# Altium schematic symbol library thesis_schem_lib.SchLib: 52 symbols
Pins are listed as number, name and electrical type; pins without a type are passive.

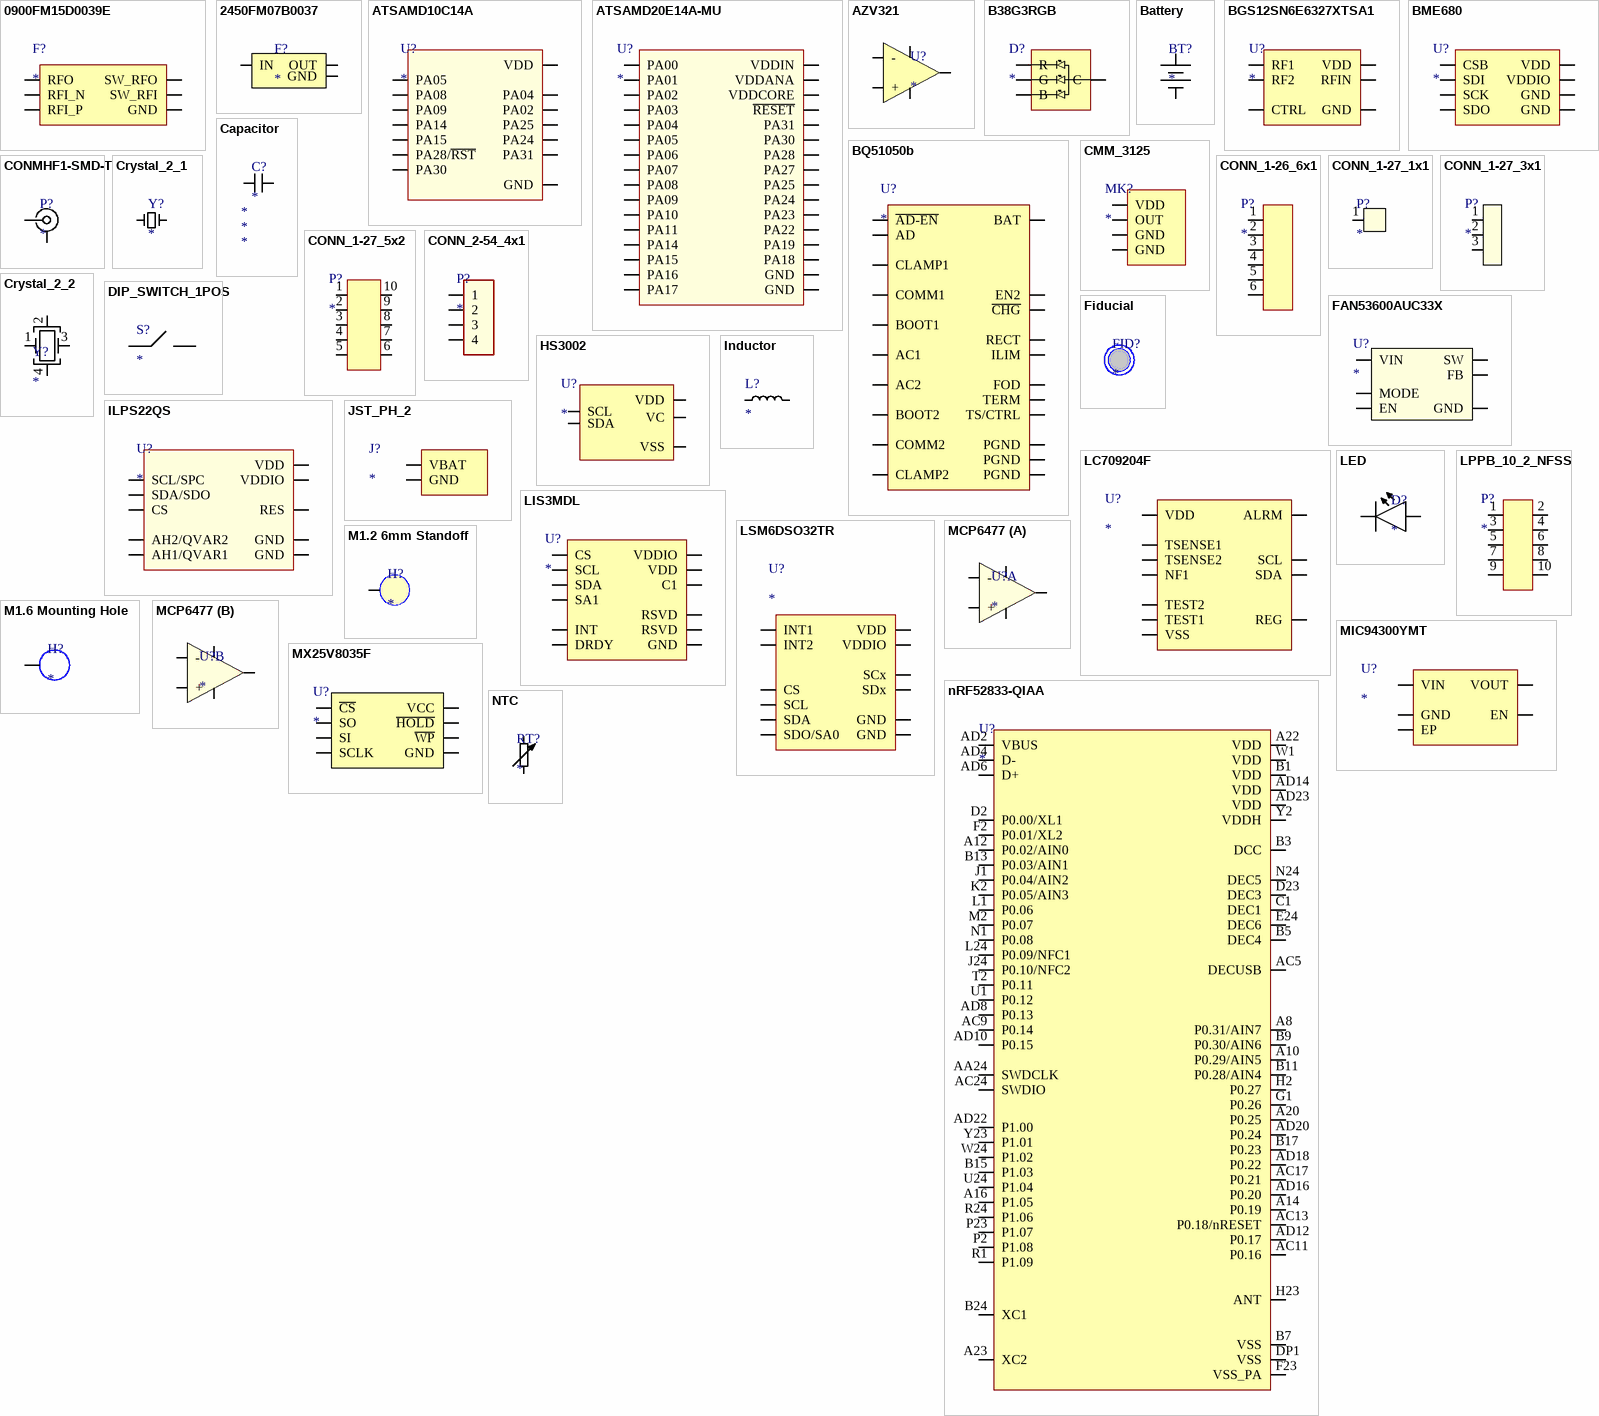
[diagram p0: symbols 0900FM15D0039E to NTC]

## 0900FM15D0039E
designator F?
Miniature impedance-matched filter for Semtech SX1261/SX1262 for 915MHz operation
footprint 0900FM15D0039E (Miniature impedance-matched filter for Semtech SX1261/SX1262)
pins: 1 RFO, 2 GND, 3 RFI_N, 4 RFI_P, 5 GND, 6 SW_RFI, 7 GND, 8 SW_RFO, 9 GND, 10 GND

## 2450FM07B0037
designator F?
Miniature 2.4GHz impedance matched low pass filter optimized for nRF52xxx
footprint 2450FM07B0037 (nRF52 Bluetooth matching filter)
pins: 1 IN "RX", 2 GND "RX", 3 OUT "RX"

## ATSAMD10C14A
designator U?
Atmel 32b MCU, SAMD10C family
footprint SOIC127P600X175-14N (SOIC, 14-Leads, Body 8.65x3.90mm, Pitch 1.27mm, IPC Medium Density)
pins: 1 PA05 "RX", 2 PA08, 3 PA09, 4 PA14, 5 PA15, 6 PA28/~{RST}, 7 PA30, 8 PA31, 9 PA24, 10 PA25, 11 GND, 12 VDD, 13 PA02, 14 PA04

## ATSAMD20E14A­MU
designator U?
footprint QFN50P500X500X100_HS-33N (QFN, 32-Leads, Body 5.00x5.00mm, Pitch 0.50mm, Thermal Pad 3.60x3.60mm, IPC Medium Density)
pins: 1 PA00, 2 PA01, 3 PA02, 4 PA03, 5 PA04, 6 PA05, 7 PA06, 8 PA07, 9 VDDANA, 10 GND, 11 PA08, 12 PA09, 13 PA10, 14 PA11, 15 PA14, 16 PA15, 17 PA16, 18 PA17, 19 PA18, 20 PA19, 21 PA22, 22 PA23, 23 PA24, 24 PA25, 25 PA27, 26 ~{RESET}, 27 PA28, 28 GND, 29 VDDCORE, 30 VDDIN, 31 PA30, 32 PA31

## AZV321
designator U?
footprint SC-70-5
pins: 1 + "RX", 2 "RX", 3 - "RX", 4 "RX", 5 "RX"

## B38G3RGB
designator D?
RGB LED
footprint B38G3RGB (RGB LED)
pins: 1 G, 2 B, 3 C, 4 R

## Battery
designator BT?
footprint LiPoly (SMD LiPoly)
footprint 1_27-3-male-header (1.27mm 3 pin male header)
pins: 1 VCC "RX", 2 VCC "RX"

## BGS12SN6E6327XTSA1
designator U?
RF Switch
footprint BGS12SN6E6327XTSA1 (SPDT RF switch)
pins: 1 RF2, 2 GND, 3 RF1, 4 VDD, 5 RFIN, 6 CTRL

## BME680
designator U?
Bosch gas, pressure and humidity sensor
footprint BME680
pins: 1 GND, 2 CSB, 3 SDI, 4 SCK, 5 SDO, 6 VDDIO, 7 GND, 8 VDD

## BQ51050b
designator U?
Single stage wireless power receiver and Li-Ion/Li-Pol battery charger. Qi compatible
footprint BQ51050b-VQFN (Wireless charging receiver and Li-Ion/Li-Poly battery charger)
pins: 0 PGND, 1 PGND, 2 AC1, 3 BOOT1, 4 BAT, 5 CLAMP1, 6 COMM1, 7 ~{CHG}, 8 ~{AD-EN}, 9 AD, 10 TERM, 11 EN2, 12 ILIM, 13 TS/CTRL, 14 FOD, 15 COMM2, 16 CLAMP2, 17 BOOT2, 18 RECT, 19 AC2, 20 PGND

## Capacitor
designator C?
Dielectric: *; Voltage: *; Tolerance: *
footprint CAP_0402
footprint CAP_0603
pins: 1 J12, 2 J11

## CMM_3125
designator MK?
footprint CMM_3125 (MEMS Microphone)
pins: 1 VDD, 2 GND, 3 GND, 4 OUT

## CONMHF1-SMD-T
designator P?
footprint CONMHF1-SMD-T
pins: 1 VCC "RX", 2 VCC "RX", 3 VCC "RX", 4 VCC "RX"

## CONN_1-26_6x1
designator P?
footprint 851-PP-NNN-40-001101
footprint 1_27-6x1-MALE_HEADER_RIGHT_THT
pins: 1, 2, 3, 4, 5, 6

## CONN_1-27_1x1
designator P?
1.27 pitch 1 pin male connector
footprint 1_27-1-MALE-HEADER (1.27mm pitch 1pin male header)
pins: 1 VCC "RX"

## CONN_1-27_3x1
designator P?
1.27mm pitch 3 pin male connector
footprint 1_27-3-male-header (1.27mm 3 pin male header)
pins: 1, 2, 3

## CONN_1-27_5x2
designator P?
1.27mm pitch 5x2 pin male connector
footprint 1_27-5x2-MALE-HEADER (1.27mm pitch 5x2 row SMD male header)
footprint 1_27-5x2 Female Right Angle
pins: 1, 2, 3, 4, 5, 6, 7, 8, 9, 10

## CONN_2-54_4x1
designator P?
footprint 2_54-4x1_FEMALE_HEADER_THT
pins: 1, 2, 3, 4

## Crystal_2_1
designator Y?
footprint 2-SMD
pins: 1, 2

## Crystal_2_2
designator Y?
footprint 4-SMD
pins: 1, 2, 3, 4

## DIP_SWITCH_1POS
designator S?
footprint DS04-254-2-01BK-SMT (1 position 2.5mm pitch SMT DIP switch)
pins: 1, 2

## FAN53600AUC33X
designator U?
600mA 3V3 DC-DC Buck Converter in 6-UBGA
footprint FAN53600 (6-UBGA DC-DC voltage regulator)
pins: A1 MODE, A2 VIN, B1 SW, B2 EN, C1 FB, C2 GND

## Fiducial
designator FID?
footprint FIDUCIAL_0.5MM_SOLDER_1MM_MASK
footprint FIDUCIAL_1MM_SOLDER_2MM_MASK

## HS3002
designator U?
Humidity sensor, 0%-100% RH \pm 1.5%RH
footprint HS3002 (Humidity sensor)
pins: 1 SCL, 2 SDA, 3 VC (power), 4 VDD (power), 6 VSS (power)

## ILPS22QS
designator U?
STM Barometer
footprint ILPS22QSTR
pins: 1 VDDIO, 2 SCL/SPC, 3 RES, 4 SDA/SDO, 5 AH2/QVAR2, 6 CS, 7 AH1/QVAR1, 8 GND, 9 GND, 10 VDD

## Inductor
designator L?
footprint LQM2MPNxxxx (Inductor in 0805)
footprint VLS2010ET-150M (Inductor)
footprint BWCS001207074N7H00 (Inductor 0402)
footprint RES_0402
footprint LQM21P
footprint LQW15AN
footprint WR202010
pins: 1, 2

## JST_PH_2
designator J?
JST PH series connector with 2 pins 1 row
footprint JST PH2 SMT (JST PH 2pin connector SMT)
pins: 1 VBAT, 2 GND

## LC709204F
designator U?
onsemi I2C Li-Ion/Li-Poly Fuel Gauge
footprint LC709204F (on-semi I2C Li-Ion/Li-Pol fuel gauge IC)
pins: A1 SCL, A2 VSS, A3 REG, A4 VDD, B1 SDA, B2 TEST2, B3 TSENSE2, B4 TSENSE1, C1 ALRM, C2 TEST1, C3 NF1 "No function, leave OPEN. Can be connected to TSENSE2 if required"

## LED
designator D?
footprint LED_0603
pins: 1, 2

## LIS3MDL
designator U?
ST magnetometer
footprint LIS3MDL (ST LGA-12 2x2 Magnetometer)
pins: 1 SCL, 2 RSVD, 3 GND, 4 C1, 5 VDD, 6 VDDIO, 7 INT, 8 DRDY, 9 SA1, 10 CS, 11 SDA, 12 RSVD

## LPPB_10_2_NFSS
designator P?
footprint LPPB_10_2_NFSS
pins: 1, 2, 3, 4, 5, 6, 7, 8, 9, 10

## LSM6DSO32TR
designator U?
STM IMU
footprint LSM6DSO
pins: 1 SDO/SA0 "RX", 2 SDx "RX", 3 SCx "RX", 4 INT1 "RX", 5 VDDIO "RX", 6 GND "RX", 7 GND "RX", 8 VDD "RX", 9 INT2 "RX", 12 CS "RX", 13 SCL "RX", 14 SDA "RX"

## M1.2 6mm Standoff
designator H?
footprint M1.2_6mm_STANDOFF
pins: 1 VCC "RX"

## M1.6 Mounting Hole
designator H?
footprint M1.6
pins: 1

## MCP6477
designator U?
footprint SOIC127P600X175-8N (SOIC, 8-Leads, Body 4.90x3.90mm, Pitch 1.27mm, IPC Medium Density)
part A pins: 1 "RX", 2 - "RX", 3 + "RX", 4 "RX", 8 "RX"
part B pins: 4 "RX", 5 + "RX", 6 - "RX", 7 "RX", 8 "RX"

## MIC94300YMT
designator U?
200mA load switch
footprint MIC94300YMT (200mA load switch)
pins: 1 EN, 2 GND, 3 VOUT, 4 VIN, EP1 EP

## MX25V8035F
designator U?
JEDEC compatible NOR flash
footprint MX25V8035F
pins: 1 ~{CS}, 2 SO, 3 ~{WP}, 4 GND, 5 SI, 6 SCLK, 7 ~{HOLD}, 8 VCC

## nRF52833-QIAA
designator U?
BLE 5.1, Cortex M-4 SoC
footprint nRF52833-QIAA (aQFN-73 Footprint for nRF52833)
pins: A8 P0.31/AIN7 "AIN7", A10 P0.29/AIN5 "AIN5", A12 P0.02/AIN0 "AIN0", A14 P0.19, A16 P1.05, A20 P0.25, A22 VDD, A23 XC2 "Connection for 32MHz crystal", AA24 SWDCLK "Serial wire debug clock input for debug and programming", AC5 DECUSB "USB 3.3V regulator supply decoupling", AC9 P0.14, AC11 P0.16, AC13 P0.18/nRESET "nRESET - Configurable as pin RESET", AC17 P0.21, AC24 SWDIO "Serial wire debug I/O for debug and programming", AD2 VBUS "5V input for USB 3.3V regulator", AD4 D- "USB D-", AD6 D+ "USB D+", AD8 P0.13, AD10 P0.15, AD12 P0.17, AD14 VDD, AD16 P0.20, AD18 P0.22, AD20 P0.24, AD22 P1.00 "TRACEDATA0 - Trace buffer TRACEDATA[0]. Serial wire output (SWO)", AD23 VDD, B1 VDD, B3 DCC "DC/DC Converter output", B5 DEC4 "1.3V regulator supply decoupling", B7 VSS, B9 P0.30/AIN6 "AIN6", B11 P0.28/AIN4 "AIN4", B13 P0.03/AIN1 "AIN1", B15 P1.03, B17 P0.23, B24 XC1 "Connection for 32MHz crystal", C1 DEC1 "1.1V regulator supply decoupling", D2 P0.00/XL1 "XL1 - Connection for 32.768kHz crystal", D23 DEC3 "Power supply, decoupling", DP1 VSS "Die pad (GND)", E24 DEC6 "1.3V regulator supply decoupling", F2 P0.01/XL2 "XL2 - Connection for 32.768kHz crystal", F23 VSS_PA "Ground (radio supply)", G1 P0.26, H2 P0.27, H23 ANT "Single-ended radio antenna connection", J1 P0.04/AIN2 "AIN2", J24 P0.10/NFC2 "NFC2 - NFC antenna connection", K2 P0.05/AIN3 "AIN3", L1 P0.06, L24 P0.09/NFC1 "NFC1 - NFC antenna connection", M2 P0.07 "TRACECLK - Trace buffer clock", N1 P0.08, N24 DEC5 "1.3V regulator supply decoupling", P2 P1.08, P23 P1.07, R1 P1.09 "TRACEDATA3 - Trace buffer TRACEDATA[3]", R24 P1.06, T2 P0.11 "TRACEDATA2 - Trace buffer TRACEDATA[2]", U1 P0.12 "TRACEDATA1 - Trace buffer TRACEDATA[1]", U24 P1.04, W1 VDD, W24 P1.02, Y2 VDDH "High voltage power supply", Y23 P1.01

## NTC
designator RT?
pins: 1 1  "RX", 2 "RX"

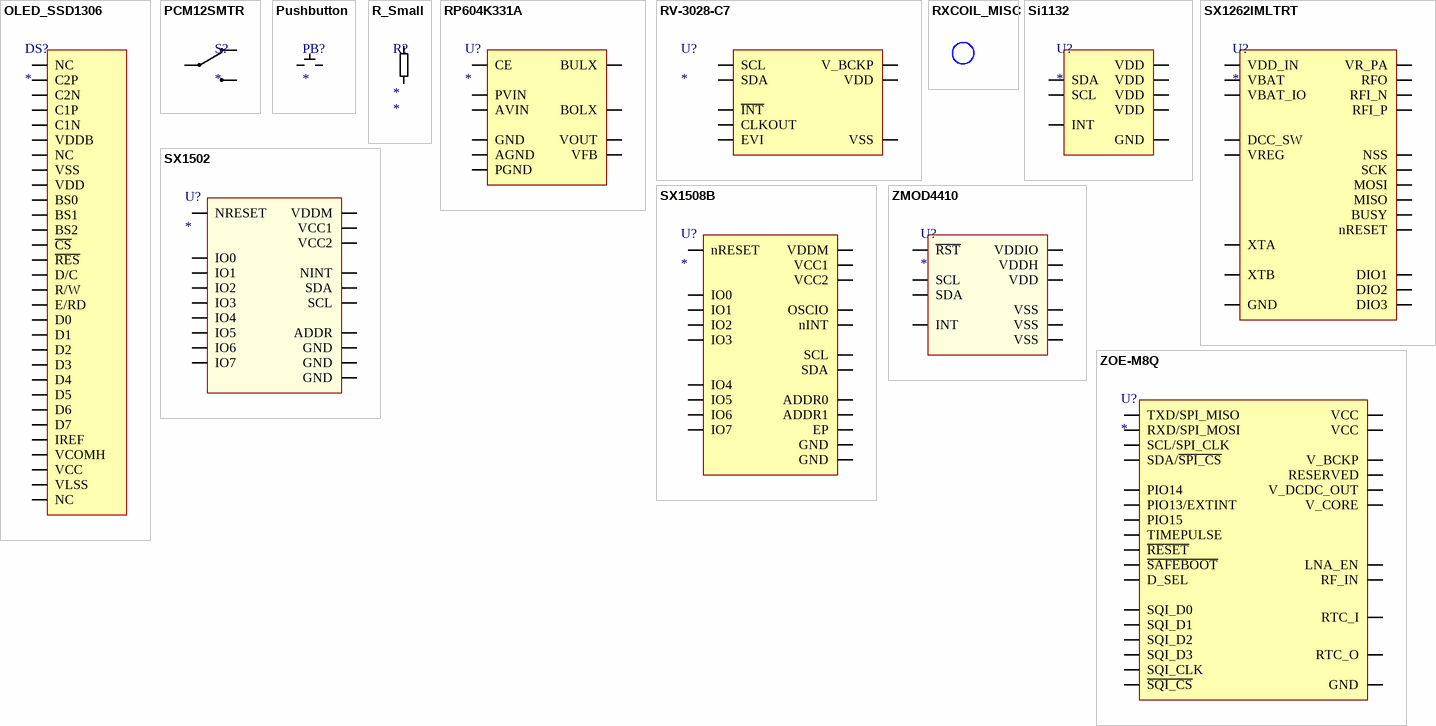
[diagram p1: symbols OLED_SSD1306 to ZOE-M8Q]

## OLED_SSD1306
designator DS?
SSD1306 based OLED display
footprint OLED_0.96Inch_SSD1306
pins: 1 NC, 2 C2P, 3 C2N, 4 C1P, 5 C1N, 6 VDDB, 7 NC, 8 VSS, 9 VDD, 10 BS0, 11 BS1, 12 BS2, 13 ~{CS}, 14 ~{RES}, 15 D/C, 16 R/W, 17 E/RD, 18 D0, 19 D1, 20 D2, 21 D3, 22 D4, 23 D5, 24 D6, 25 D7, 26 IREF, 27 VCOMH, 28 VCC, 29 VLSS, 30 NC

## PCM12SMTR
designator S?
CK Switches 300mA 6VDC SMT right-angle slide switch
footprint PCM12SMTR (CK switches PCM series SMT switch)
pins: 1, 2, 3

## Pushbutton
designator PB?
footprint EVQP7A (Right angle tactile switch)
pins: 1, 2

## R_Small
designator R?
Wattage: *; Tolerance: *
footprint RES_0402
footprint RES_0603
pins: 1 1  "RX", 2 "RX"

## RP604K331A
designator U?
Nisshinbo Ultra-low quiescent current, 300mA, Buck-Boost DC/DC converter
footprint UDFN-12 (UDFN-12 package for RP604x)
pins: 1 AVIN, 2 CE, 3 PGND, 4 PGND, 5 AGND, 6 VFB, 7 VOUT, 8 BOLX, 9 PGND, 10 PGND, 11 BULX, 12 PVIN, 13 GND

## RV-3028-C7
designator U?
Extreme Low Power RTC Module
footprint RV-3028-C7 (Extreme Low Power RTC module)
pins: 1 CLKOUT, 2 ~{INT}, 3 SCL, 4 SDA, 5 VSS, 6 V_BCKP, 7 VDD, 8 EVI

## RXCOIL_MISC
designator *  (value not drawn)
footprint RX_COIL_MISC

## Si1132
designator U?
UV index and ambient light sensor
footprint Si1132
pins: 1 SDA "RX", 2 SCL "RX", 3 VDD "RX", 4 INT "RX", 6 VDD "RX", 7 VDD "RX", 8 GND "RX", 9 VDD "RX"

## SX1262IMLTRT
designator U?
Semtech LoRa radio transceivers
footprint SX1262IMLTRT (Semtech LoRa Transceiver)
pins: 0 GND, 1 VDD_IN, 2 GND, 3 XTA, 4 XTB, 5 GND, 6 DIO3, 7 VREG, 8 GND, 9 DCC_SW, 10 VBAT, 11 VBAT_IO, 12 DIO2, 13 DIO1, 14 BUSY, 15 nRESET, 16 MISO, 17 MOSI, 18 SCK, 19 NSS, 20 GND, 21 RFI_P, 22 RFI_N, 23 RFO, 24 VR_PA

## SX1502
designator U?
8 GPIO extender with I2C interface
footprint QFN40P300X300X60_HS-21N (QFN, 20-Leads, Body 3.00x3.00mm, Pitch 0.40mm, Thermal Pad 1.68x1.68mm, IPC Medium Density)
pins: 1 NRESET, 2 SDA, 4 SCL, 5 IO0, 6 IO1, 7 VCC1, 8 GND, 9 IO2, 10 IO3, 11 NINT, 12 ADDR, 14 VDDM, 15 IO4, 16 IO5, 17 VCC2, 18 GND, 19 IO6, 20 IO7, 21 GND

## SX1508B
designator U?
8 channel GPIO expander with level shifting, LED driver and keypad engine
footprint QFN40P300X300X60_HS-21N (QFN, 20-Leads, Body 3.00x3.00mm, Pitch 0.40mm, Thermal Pad 1.68x1.68mm, IPC Medium Density)
pins: 1 nRESET, 2 SDA, 3 SCL, 4 ADDR0, 5 IO0, 6 IO1, 7 VCC1, 8 GND, 9 IO2, 10 IO3, 11 nINT, 12 ADDR1, 13 OSCIO, 14 VDDM, 15 IO4, 16 IO5, 17 VCC2, 18 GND, 19 IO6, 20 IO7, 21 EP

## ZMOD4410
designator U?
Renesas gas sensor module for TVOC and indoor air quality
footprint ZMOD4410
pins: 1 SCL "RX", 2 SDA "RX", 3 INT "RX", 5 VDD "RX", 6 VSS "RX", 7 VSS "RX", 9 VSS "RX", 10 VDDH "RX", 11 ~{RST} "RX", 12 VDDIO "RX"

## ZOE-M8Q
designator U?
ublox GPS/GNSS receiver
footprint ZOE-M8Q (ublox GNSS receiver)
pins: A1 GND, A2 SDA/~{SPI_CS}, A3 GND, A4 RF_IN, A5 GND, A7 GND, A8 GND, A9 GND, B1 SCL/SPI_CLK, B9 GND, C1 SQI_D1, C3 TIMEPULSE, C4 ~{SAFEBOOT}, C5 LNA_EN, C6 PIO15, C7 GND, C9 GND, D1 SQI_D0, D3 ~{SQI_CS}, D4 D_SEL, D6 GND, D9 GND, E1 SQI_CLK, E3 SQI_D2, E7 GND, F3 SQI_D3, F6 PIO14, F7 GND, G1 V_CORE, G3 GND, G4 PIO13/EXTINT, G6 GND, G7 GND, G9 RESERVED, H1 V_DCDC_OUT, H9 V_BCKP, J1 VCC, J2 VCC, J3 GND, J4 RXD/SPI_MOSI, J5 TXD/SPI_MISO, J6 ~{RESET}, J7 RTC_I, J8 RTC_O, J9 GND